# EAGLE library part PH_1X08 (library PP_Connectors)
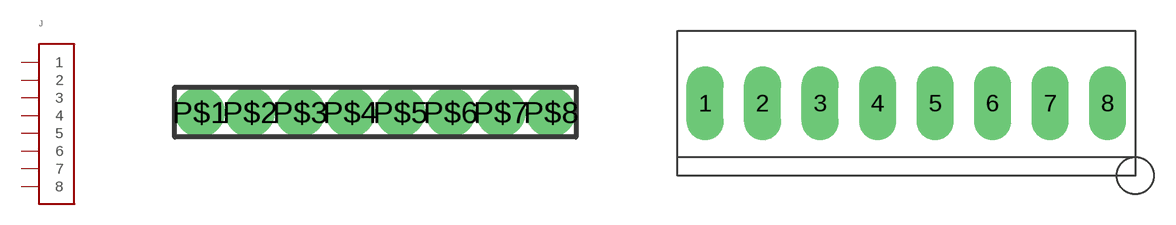
[diagram p4: symbol with the pads of HEADER_01X08_1.27_PTH; footprints HEADER_01X08_1.27_PTH, MOLEX_KK_8]

Designator prefix J

## PH_1X081.27MM_PTH  [HEADER_01X08_1.27_PTH]
P$1  1
P$2  2
P$3  3
P$4  4
P$5  5
P$6  6
P$7  7
P$8  8

## PH_1X08MOLEX_KK_8  [MOLEX_KK_8]
1  1
2  2
3  3
4  4
5  5
6  6
7  7
8  8

## PH_1X08PTH  [HEADER_01X08_PTH]
Pads as for MOLEX_KK_8

## PH_1X08SMALL_PTH  [HEADER_01X08_SMALL_PTH]
Pads as for MOLEX_KK_8

## PH_1X08PTH_ROUND  [HEADER_01X08_PTH_ROUND]
Pads as for MOLEX_KK_8

## Footprint HEADER_01X08_1.27_PTH (pad centres in mm)
drill 0.75 pad 1.016: P$1 -3.81,0; P$2 -2.54,0; P$3 -1.27,0; P$4 0,0; P$5 1.27,0; P$6 2.54,0; P$7 3.81,0; P$8 5.08,0

## Footprint MOLEX_KK_8 (pad centres in mm)
drill 1.702 long: 1 -13.868,0; 2 -9.906,0; 3 -5.944,0; 4 -1.981,0; 5 1.981,0; 6 5.944,0; 7 9.906,0; 8 13.868,0

## Footprint HEADER_01X08_PTH (pad centres in mm)
drill 0.8 long: 1 -8.89,0; 2 -6.35,0; 3 -3.81,0; 4 -1.27,0; 5 1.27,0; 6 3.81,0; 7 6.35,0; 8 8.89,0

## Footprint HEADER_01X08_SMALL_PTH (pad centres in mm)
drill 0.8: 1 -8.89,0; 2 -6.35,0; 3 -3.81,0; 4 -1.27,0; 5 1.27,0; 6 3.81,0; 7 6.35,0; 8 8.89,0

## Footprint HEADER_01X08_PTH_ROUND (pad centres in mm)
drill 0.8: 1 -8.89,0; 2 -6.35,0; 3 -3.81,0; 4 -1.27,0; 5 1.27,0; 6 3.81,0; 7 6.35,0; 8 8.89,0